# Altium footprint library botao reset_erase CK.PcbLib: 1 footprints
Each footprint in its own frame and in the unit in brackets; x right, y up, seen from the top. Pads: shape width x height; smd on the part's side, far side on the other; paste and mask are expansions set on the pad; w line width, h text height; cw(c..) or ccw(c..) is an arc to the next point about the centre after c.
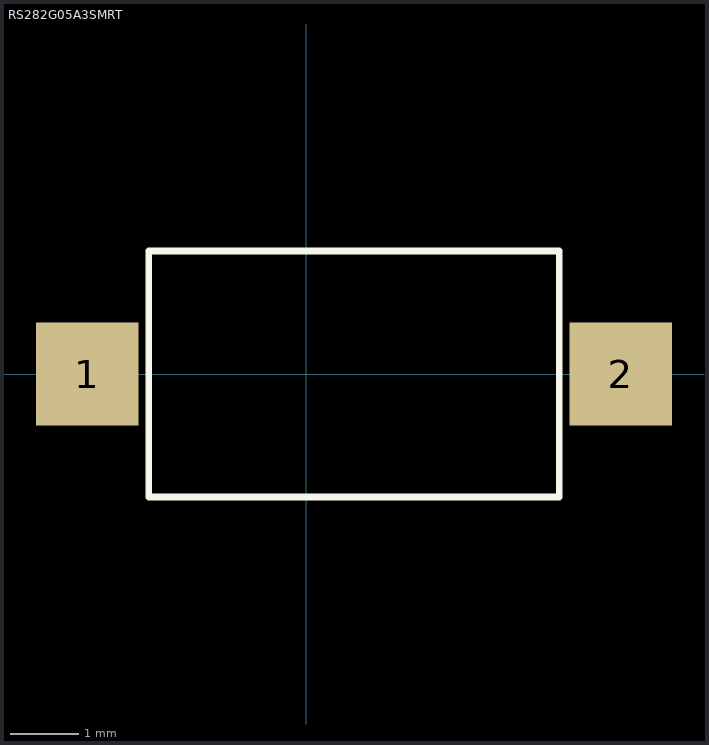
[diagram p0: the footprint, top view; thin cyan lines are the x and y axes]

## RS282G05A3SMRT [mm]
pads (2):
  rect 1.5x1.5 smd: 1(-3.2,0) 2(4.6,0)
Top Overlay:
  lines w0.1: -2.3,-1.8 -2.3,1.8 3.7,1.8 3.7,-1.8 -2.3,-1.8
3D body "Botao C_K.stp": height 2.5, standoff 0, extent -3.3,-1.8 4.7,1.8